# Altium schematic symbol library discrete_oscillator.SchLib: 9 symbols
Pins are listed as number, name and electrical type; pins without a type are passive.

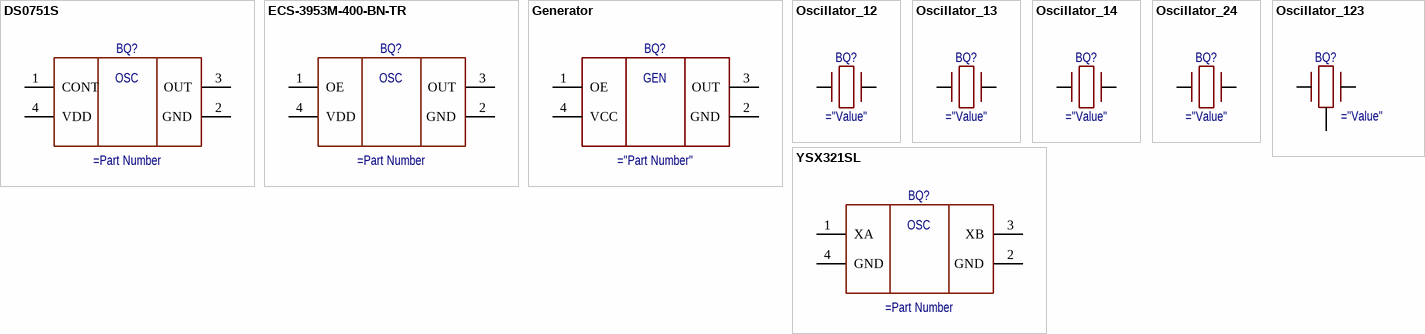
[diagram p0: symbols DS0751S to YSX321SL]

## DS0751S
designator BQ?
Oscillator 100 MHz; PartNumber: =Part Number; ComponentLink1Description: =Part Number; ComponentLink1URL: =Part Number; Manufacturer: =Part Number
footprint SON508P490X190-4N (SON, 4-Leads, Body 7,30x4,90mm, Pitch 5,08mm, IPC Medium Density)
pins: 1 CONT, 2 GND, 3 OUT, 4 VDD
text: OSC

## ECS-3953M-400-BN-TR
designator BQ?
Oscillator 40MHz
pins: 1 OE, 2 GND, 3 OUT, 4 VDD
text: OSC

## Generator
designator BQ?
Generic Oscillator
pins: 1 OE, 2 GND, 3 OUT, 4 VCC
text: GEN

## Oscillator_12
designator BQ?
Generic Crystal
pins: 1, 2

## Oscillator_13
designator BQ?
Generic Crystal
pins: 1, 3

## Oscillator_14
designator BQ?
Generic Crystal
pins: 1, 4

## Oscillator_24
designator BQ?
Generic Crystal
pins: 2, 4

## Oscillator_123
designator BQ?
Generic Crystal
pins: 1, 2, 3

## YSX321SL
designator BQ?
Crystal 25 MHz; Manufacturer: =Part Number; PartNumber: =Part Number; ComponentLink1Description: =Part Number; ComponentLink1URL: =Part Number
footprint PSON220P250X80-4N (PSON, 4-Leads, Body 3,20x2,50mm, Pitch 2,20mm, IPC Medium Density)
pins: 1 XA, 2 GND, 3 XB, 4 GND
text: OSC